# Altium integrated library CMI-0955-03TH.IntLib: 1 symbol
Pins are listed as number, name and electrical type; pins without a type are passive.

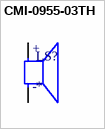
[diagram p0: symbol CMI-0955-03TH]

## CMI-0955-03TH
designator LS?
Buzzers Indicator, Internally Driven Magnetic 3 V 30mA 2.7kHz 80dB @ 3V, 10cm Through Hole PC Pins; MF: Same Sky; MP: CMI-0955-03TH; SnapEDA_Link: https://www.snapeda.com/parts/CMI-0955-03TH/Same+Sky/view-part/?ref=snap; Package: Package; Value: *; Check_prices: https://www.snapeda.com/parts/CMI-0955-03TH/Same+Sky/view-part/?ref=eda
footprint SPKR_CMI-0955-03TH
pins: N, P
text: +; -